# Altium integrated library FTSH-105-01-L-D.IntLib: 1 symbol
Pins are listed as number, name and electrical type; pins without a type are passive.

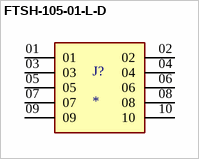
[diagram p0: symbol FTSH-105-01-L-D]

## FTSH-105-01-L-D
designator J?
MF: Samtec; MP: FTSH-105-01-L-D; Value: *; Availability: Unavailable; Price: None; Package: None
footprint SAMTEC_FTSH-105-01-L-D
pins: 01, 02, 03, 04, 05, 06, 07, 08, 09, 10